# Altium footprint library PowerSupply.PcbLib: 34 footprints (part 3 of 3)
Each footprint in its own frame and in the unit in brackets; x right, y up, seen from the top. Pads: shape width x height; smd on the part's side, far side on the other; paste and mask are expansions set on the pad; w line width, h text height; cw(c..) or ccw(c..) is an arc to the next point about the centre after c.
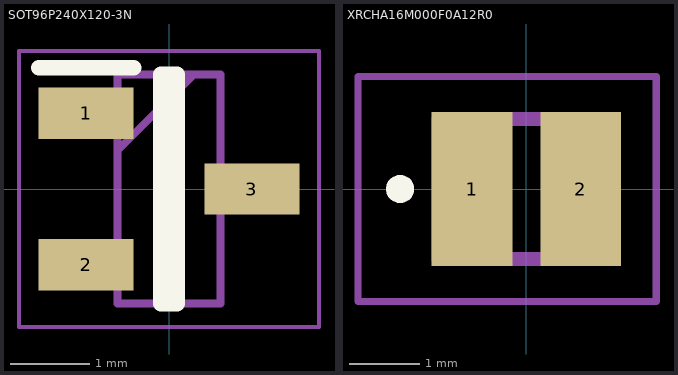
[diagram p2: the footprints below, top view; thin cyan lines are the x and y axes]

## SOT96P240X120-3N [mm]
pads (3):
  rect 1.2x0.65 smd: 1(-1.05,0.96) 2(-1.05,-0.96) 3(1.05,0)
Top Overlay:
  lines w0.2: -1.65,1.535 -0.45,1.535 ; -0.1,-1.45 -0.1,1.45 0.1,1.45 0.1,-1.45 -0.1,-1.45
Mechanical 13:
  lines w0.1: -0.65,0.49 0.31,1.45 ; -0.65,-1.45 -0.65,1.45 0.65,1.45 0.65,-1.45 -0.65,-1.45
Mechanical 15:
  lines w0.05: -1.9,-1.75 -1.9,1.75 1.9,1.75 1.9,-1.75 -1.9,-1.75
3D body "DMP1045U-7.stp": height 1.2, standoff 0, extent -1.2,-1.45 1.2,1.45

## XRCHA16M000F0A12R0 [mm]
pads (2):
  rect 1.15x2.2 smd: 1(-0.775,0) 2(0.775,0)
Top Overlay:
  lines w0.2: -1.8,-0.1 cw(c-1.8,0) -1.8,0.1 cw(c-1.8,0) -1.8,-0.1
Mechanical 13:
  lines w0.2: -1.25,-1 1.25,-1 1.25,1 -1.25,1 -1.25,-1
Mechanical 15:
  lines w0.1: -2.4,-1.6 1.85,-1.6 1.85,1.6 -2.4,1.6 -2.4,-1.6